# Altium schematic symbol library LT3045.SchLib: 1 symbol
Pins are listed as number, name and electrical type; pins without a type are passive.

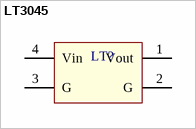
[diagram p0: symbol LT3045]

## LT3045
designator LT?
footprint PCBComponent_1
pins: 1 Vout (power), 2 G (power), 3 G (power), 4 Vin (power)